# Altium integrated library Linear Technology PMIC-Switching Reg LTC1174-LTC3901.IntLib: 2647 symbols (part 260 of 310)
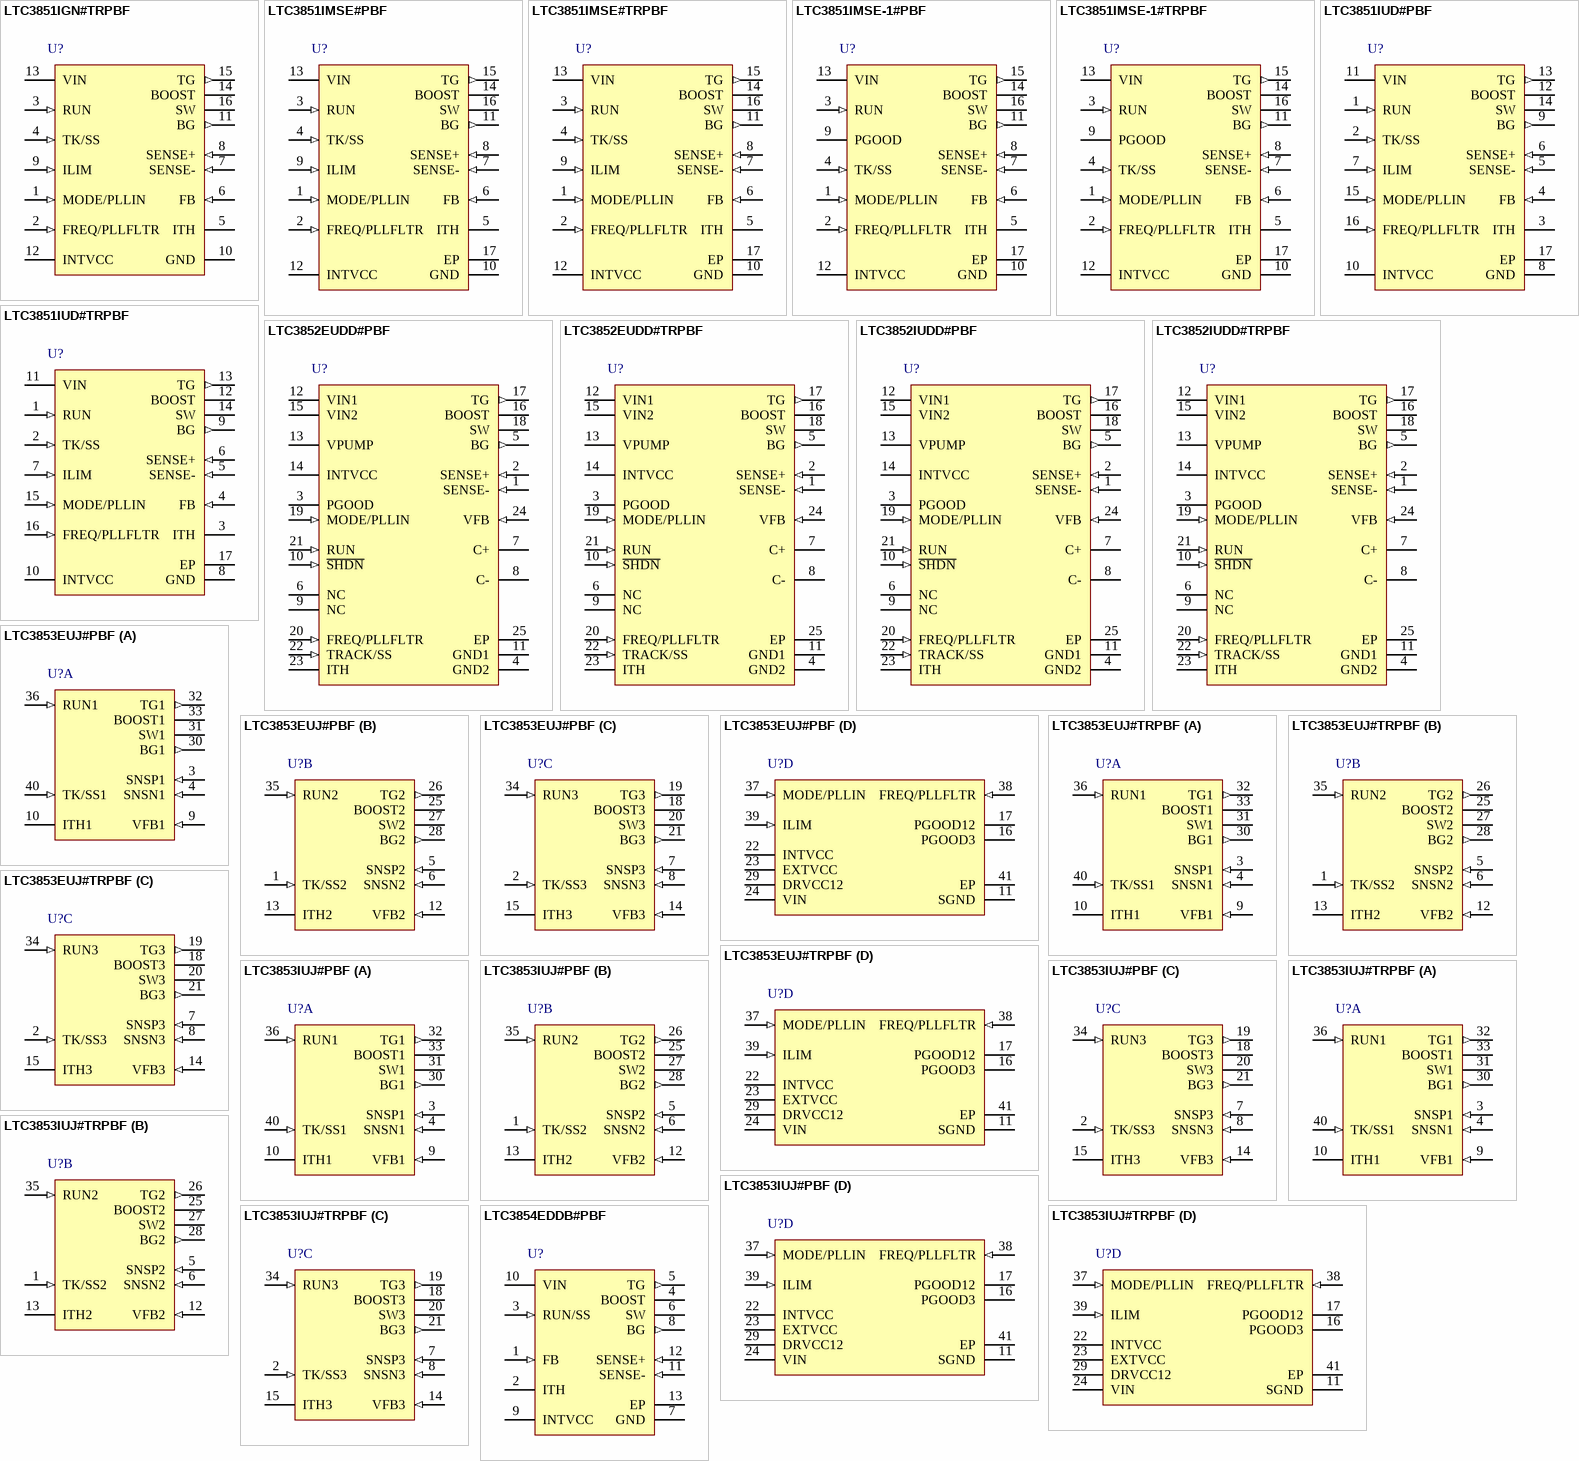
[diagram p271: symbols LTC3851IGN#TRPBF to LTC3854EDDB#PBF]

## LTC3852IUDD#PBF
designator U?
Low Input Voltage, Synchronous Step-Down DC/DC Controller, 24-pin QFN (UDD-24), -40 to 125 degC, Pb-Free; Manufacturer: Linear Technology; PartNumber: LTC3852IUDD#PBF; Number of Outputs: 1; PackageReference: UDD-24; PackageDescription: 24-Pin Plastic QFN, Body 5 x 3 mm, Pitch 0.5 mm; Supplier 1: Digi-Key; Supplier Part Number 1: LTC3852IUDD#PBF-ND; RoHS: TRUE
footprint LT-UDD-24_N (QFN, 24-Leads, Body 5.1x3.1mm, Pitch 0.5mm, Thermal Pad 3.65x1.65mm, IPC Medium Density)
footprint LT-UDD-24_L (QFN, 24-Leads, Body 5.1x3.1mm, Pitch 0.5mm, Thermal Pad 3.65x1.65mm, IPC High Density)
footprint LT-UDD-24_M (QFN, 24-Leads, Body 5.1x3.1mm, Pitch 0.5mm, Thermal Pad 3.65x1.65mm, IPC Low Density)
pins: 1 SENSE- (in) "The (-) Input to the Current Sense Comparators. Kelvin connect to VOUT at the current sense resistor or, if DCR sensing is used, at the inductor.", 2 SENSE+ (in) "Current Sense Comparator Noninverting Input. The (+) input to the current comparator is normally connected to the DCR sensing network or current sensing resistor.", 3 PGOOD (oc) "Power Good Indicator Output. Open drain logic out that is pulled to ground when the output voltage exceeds the +/-10% regulation window, after the internal 17us power bad mask timer expires.", 4 GND2 (power) "Buck Controller Ground. All small-signal components and compensation components should be Kelvin connected to this ground. The (-) terminal of CINTVCC should be closely connected to this pin. The exposed pad must be soldered (See Datasheet)", 5 BG (out) "Bottom Gate Driver Output. This pin drives the gate of the bottom N-channel MOSFET between GND and INTVCC.", 6 NC "No Connection", 7 C+ "Flying Capacitor Positive Terminal.", 8 C- "Flying Capacitor Negative Terminal.", 9 NC "No Connection", 10 ~{SHDN} (in) "Active Low Shutdown Input. A low on S\H\D\N\ disables the charge pump. This pin must not be allowed to float.", 11 GND1 (power) "Charge Pump Ground. The (-) terminals of CIN and CVPUMP should be closely connected to this pin.", 12 VIN1 (power) "Input Supply Voltage to Charge Pump. VIN1 should be bypassed with a 1uF to 4.7uF low ESR ceramic capacitor.", 13 VPUMP (power) "Regulated Output Voltage from Charge Pump. For best performance, VPUMP should be bypassed with a low ESR ceramic capacitor providing at least 2.2uF of capacitance as close to the pin as possible.", 14 INTVCC (power) "Gate Drive Supply. The MOSFET drivers and internal logic are powered from this voltage. Bypass this pin to GND with a minimum 2.2uF low ESR tantalum or ceramic capacitor, CINTVCC.", 15 VIN2 (power) "Main Supply Pin for Step-Down Controller. A bypass capacitor should be tied between this pin and the GND2 pin.", 16 BOOST "Boosted Floating Driver Supply. The (+) terminal of the booststrap capacitor is connected to this pin. This pin swings from a diode voltage drop below INTVCC up to VIN1 + INTVCC.", 17 TG (out) "Top Gate Driver Output. This is the output of a floating driver with a voltage swing equal to INTVCC superimposed on the switch node voltage.", 18 SW "Switch Node Connection to the Inductor. Voltage swing at this pin is from a diode (external) voltage drop below ground to the buck regulator power stage VIN.", 19 MODE/PLLIN (in) "Forced Continuous Mode, Burst Mode operation or Pulse-Skipping Mode Selection Pin and External Synchronization Input to Phase Detector Pin. Connect this pin to INTVCC to force continuous conduction mode of operation. Connect (See Datasheet)", 20 FREQ/PLLFLTR (in) "The phase-locked loop’s lowpass filter is tied to this pin. Alternatively, a resistor can be connected between this pin and GND2 to vary the frequency of the internal oscillator.", 21 RUN (in) "Run Control Input. Forcing the pin below 1.25V shuts down the step-down controller. There is a 2uA pull-up current on this pin.", 22 TRACK/SS (in) "Output Voltage Tracking and Soft-Start Input. A capacitor to ground at this pin sets the ramp rate for the output voltage. An internal soft-start current of 1uA charges this capacitor.", 23 ITH "Error Amplifier Output and Switching Regulator Compensation Point. The current comparator input threshold increases with this control voltage.", 24 VFB (in) "Error Amplifier Feedback Input. This pin receives the remotely sensed feedback voltage from an external resistive divider across the output.", 25 EP (power) "Ground. Must be soldered to PCB, providing a local ground for the IC."

## LTC3852IUDD#TRPBF
designator U?
Low Input Voltage, Synchronous Step-Down DC/DC Controller, 24-pin QFN (UDD-24), -40 to 125 degC, Pb-Free, Tape and Reel; Manufacturer: Linear Technology; PartNumber: LTC3852IUDD#TRPBF; Number of Outputs: 1; PackageReference: UDD-24; PackageDescription: 24-Pin Plastic QFN, Body 5 x 3 mm, Pitch 0.5 mm; Supplier 1: Digi-Key; Supplier Part Number 1: LTC3852IUDD#TRPBF-ND; RoHS: TRUE
footprint LT-UDD-24_N (QFN, 24-Leads, Body 5.1x3.1mm, Pitch 0.5mm, Thermal Pad 3.65x1.65mm, IPC Medium Density)
footprint LT-UDD-24_L (QFN, 24-Leads, Body 5.1x3.1mm, Pitch 0.5mm, Thermal Pad 3.65x1.65mm, IPC High Density)
footprint LT-UDD-24_M (QFN, 24-Leads, Body 5.1x3.1mm, Pitch 0.5mm, Thermal Pad 3.65x1.65mm, IPC Low Density)
pins: 1 SENSE- (in) "The (-) Input to the Current Sense Comparators. Kelvin connect to VOUT at the current sense resistor or, if DCR sensing is used, at the inductor.", 2 SENSE+ (in) "Current Sense Comparator Noninverting Input. The (+) input to the current comparator is normally connected to the DCR sensing network or current sensing resistor.", 3 PGOOD (oc) "Power Good Indicator Output. Open drain logic out that is pulled to ground when the output voltage exceeds the +/-10% regulation window, after the internal 17us power bad mask timer expires.", 4 GND2 (power) "Buck Controller Ground. All small-signal components and compensation components should be Kelvin connected to this ground. The (-) terminal of CINTVCC should be closely connected to this pin. The exposed pad must be soldered (See Datasheet)", 5 BG (out) "Bottom Gate Driver Output. This pin drives the gate of the bottom N-channel MOSFET between GND and INTVCC.", 6 NC "No Connection", 7 C+ "Flying Capacitor Positive Terminal.", 8 C- "Flying Capacitor Negative Terminal.", 9 NC "No Connection", 10 ~{SHDN} (in) "Active Low Shutdown Input. A low on S\H\D\N\ disables the charge pump. This pin must not be allowed to float.", 11 GND1 (power) "Charge Pump Ground. The (-) terminals of CIN and CVPUMP should be closely connected to this pin.", 12 VIN1 (power) "Input Supply Voltage to Charge Pump. VIN1 should be bypassed with a 1uF to 4.7uF low ESR ceramic capacitor.", 13 VPUMP (power) "Regulated Output Voltage from Charge Pump. For best performance, VPUMP should be bypassed with a low ESR ceramic capacitor providing at least 2.2uF of capacitance as close to the pin as possible.", 14 INTVCC (power) "Gate Drive Supply. The MOSFET drivers and internal logic are powered from this voltage. Bypass this pin to GND with a minimum 2.2uF low ESR tantalum or ceramic capacitor, CINTVCC.", 15 VIN2 (power) "Main Supply Pin for Step-Down Controller. A bypass capacitor should be tied between this pin and the GND2 pin.", 16 BOOST "Boosted Floating Driver Supply. The (+) terminal of the booststrap capacitor is connected to this pin. This pin swings from a diode voltage drop below INTVCC up to VIN1 + INTVCC.", 17 TG (out) "Top Gate Driver Output. This is the output of a floating driver with a voltage swing equal to INTVCC superimposed on the switch node voltage.", 18 SW "Switch Node Connection to the Inductor. Voltage swing at this pin is from a diode (external) voltage drop below ground to the buck regulator power stage VIN.", 19 MODE/PLLIN (in) "Forced Continuous Mode, Burst Mode operation or Pulse-Skipping Mode Selection Pin and External Synchronization Input to Phase Detector Pin. Connect this pin to INTVCC to force continuous conduction mode of operation. Connect (See Datasheet)", 20 FREQ/PLLFLTR (in) "The phase-locked loop’s lowpass filter is tied to this pin. Alternatively, a resistor can be connected between this pin and GND2 to vary the frequency of the internal oscillator.", 21 RUN (in) "Run Control Input. Forcing the pin below 1.25V shuts down the step-down controller. There is a 2uA pull-up current on this pin.", 22 TRACK/SS (in) "Output Voltage Tracking and Soft-Start Input. A capacitor to ground at this pin sets the ramp rate for the output voltage. An internal soft-start current of 1uA charges this capacitor.", 23 ITH "Error Amplifier Output and Switching Regulator Compensation Point. The current comparator input threshold increases with this control voltage.", 24 VFB (in) "Error Amplifier Feedback Input. This pin receives the remotely sensed feedback voltage from an external resistive divider across the output.", 25 EP (power) "Ground. Must be soldered to PCB, providing a local ground for the IC."

## LTC3853EUJ#PBF
designator U?
Triple Output, Multiphase Synchronous Step-Down Controller, 40-pin QFN (UJ-40), -40 to 125 degC, Pb-Free; Manufacturer: Linear Technology; PartNumber: LTC3853EUJ#PBF; Number of Outputs: 3; PackageReference: UJ-40; PackageDescription: 40-Pin Plastic QFN, Body 6 x 6 mm, Pitch 0.5 mm; Supplier 1: Digi-Key; Supplier Part Number 1: LTC3853EUJ#PBF-ND; RoHS: TRUE
footprint LT-UJ-40_N (QFN, 40-Leads, Body 6.1x6.1mm, Pitch 0.5mm, Thermal Pad 4.42x4.42mm, IPC Medium Density)
footprint LT-UJ-40_L (QFN, 40-Leads, Body 6.1x6.1mm, Pitch 0.5mm, Thermal Pad 4.42x4.42mm, IPC High Density)
footprint LT-UJ-40_M (QFN, 40-Leads, Body 6.1x6.1mm, Pitch 0.5mm, Thermal Pad 4.42x4.42mm, IPC Low Density)
part A pins: 3 SNSP1 (in) "Current Sense Comparator Inputs. The (+) inputs to the current comparators are normally connected to DCR sensing networks or current sensing resistors. SENSE3+ common modes up to 13.5V, allowing higher VOUT voltages on (See Datasheet)", 4 SNSN1 (in) "Current Sense Comparator Inputs. The (-) inputs to the current comparators are connected to the outputs. SENSE3- common modes up to 13.5V, allowing higher VOUT voltages on channel 3.", 9 VFB1 (in) "Error Amplifier Feedback Inputs. These pins receive the remotely sensed feedback voltages for each channel from external resistive dividers across the outputs. Connecting VFB2 to VIN through a 200k resistor enables dual (See Datasheet)", 10 ITH1 "Current Control Thresholds and Error Amplifier Compensation Points. Each associated channels’ current comparator tripping threshold increases with its ITH control voltage. In dual output (2 + 1) mode, ITH1 and ITH2 need t(See Datasheet)", 30 BG1 (out) "Bottom Gate Driver Outputs. These pins drive the gates of the bottom N-channel MOSFETs between PGND and INTVCC/DRVCC12.", 31 SW1 "Switch Node Connections to Inductors. Voltage swing at these pins is from a Schottky diode (external) voltage drop below ground to VIN.", 32 TG1 (out) "Top Gate Driver Outputs. These are the outputs of floating drivers with a voltage swing equal to INTVCC superimposed on the switch nodes voltages.", 33 BOOST1 "Boosted Floating Driver Supplies. The (+) terminal of the booststrap capacitors connect to these pins. These pins swing from a diode voltage drop below INTVCC up to VIN + INTVCC.", 36 RUN1 (in) "Run Control Inputs. A voltage above 1.2V on any RUN pin turns on the IC. However, forcing any of these pins below 1.2V causes the IC to shut down the circuitry required for that particular channel. There are 0.5uA pull-up (See Datasheet)", 40 TK/SS1 (in) "Output Voltage Tracking and Soft-Start Inputs. When one particular channel is configured to be the master, a capacitor to ground at this pin sets the ramp rate for the master channel’s output voltage. When the channel i(See Datasheet)"
part B pins: 1 TK/SS2 (in) "Output Voltage Tracking and Soft-Start Inputs. When one particular channel is configured to be the master, a capacitor to ground at this pin sets the ramp rate for the master channel’s output voltage. When the channel i(See Datasheet)", 5 SNSP2 (in) "Current Sense Comparator Inputs. The (+) inputs to the current comparators are normally connected to DCR sensing networks or current sensing resistors. SENSE3+ common modes up to 13.5V, allowing higher VOUT voltages on (See Datasheet)", 6 SNSN2 (in) "Current Sense Comparator Inputs. The (-) inputs to the current comparators are connected to the outputs. SENSE3- common modes up to 13.5V, allowing higher VOUT voltages on channel 3.", 12 VFB2 (in) "Error Amplifier Feedback Inputs. These pins receive the remotely sensed feedback voltages for each channel from external resistive dividers across the outputs. Connecting VFB2 to VIN through a 200k resistor enables dual (See Datasheet)", 13 ITH2 "Current Control Thresholds and Error Amplifier Compensation Points. Each associated channels’ current comparator tripping threshold increases with its ITH control voltage. In dual output (2 + 1) mode, ITH1 and ITH2 need t(See Datasheet)", 25 BOOST2 "Boosted Floating Driver Supplies. The (+) terminal of the booststrap capacitors connect to these pins. These pins swing from a diode voltage drop below INTVCC up to VIN + INTVCC.", 26 TG2 (out) "Top Gate Driver Outputs. These are the outputs of floating drivers with a voltage swing equal to INTVCC superimposed on the switch nodes voltages.", 27 SW2 "Switch Node Connections to Inductors. Voltage swing at these pins is from a Schottky diode (external) voltage drop below ground to VIN.", 28 BG2 (out) "Bottom Gate Driver Outputs. These pins drive the gates of the bottom N-channel MOSFETs between PGND and INTVCC/DRVCC12.", 35 RUN2 (in) "Run Control Inputs. A voltage above 1.2V on any RUN pin turns on the IC. However, forcing any of these pins below 1.2V causes the IC to shut down the circuitry required for that particular channel. There are 0.5uA pull-up (See Datasheet)"
part C pins: 2 TK/SS3 (in) "Output Voltage Tracking and Soft-Start Inputs. When one particular channel is configured to be the master, a capacitor to ground at this pin sets the ramp rate for the master channel’s output voltage. When the channel i(See Datasheet)", 7 SNSP3 (in) "Current Sense Comparator Inputs. The (+) inputs to the current comparators are normally connected to DCR sensing networks or current sensing resistors. SENSE3+ common modes up to 13.5V, allowing higher VOUT voltages on (See Datasheet)", 8 SNSN3 (in) "Current Sense Comparator Inputs. The (-) inputs to the current comparators are connected to the outputs. SENSE3- common modes up to 13.5V, allowing higher VOUT voltages on channel 3.", 14 VFB3 (in) "Error Amplifier Feedback Inputs. These pins receive the remotely sensed feedback voltages for each channel from external resistive dividers across the outputs. Connecting VFB2 to VIN through a 200k resistor enables dual (See Datasheet)", 15 ITH3 "Current Control Thresholds and Error Amplifier Compensation Points. Each associated channels’ current comparator tripping threshold increases with its ITH control voltage. In dual output (2 + 1) mode, ITH1 and ITH2 need t(See Datasheet)", 18 BOOST3 "Boosted Floating Driver Supplies. The (+) terminal of the booststrap capacitors connect to these pins. These pins swing from a diode voltage drop below INTVCC up to VIN + INTVCC.", 19 TG3 (out) "Top Gate Driver Outputs. These are the outputs of floating drivers with a voltage swing equal to INTVCC superimposed on the switch nodes voltages.", 20 SW3 "Switch Node Connections to Inductors. Voltage swing at these pins is from a Schottky diode (external) voltage drop below ground to VIN.", 21 BG3 (out) "Bottom Gate Driver Outputs. These pins drive the gates of the bottom N-channel MOSFETs between PGND and INTVCC/DRVCC12.", 34 RUN3 (in) "Run Control Inputs. A voltage above 1.2V on any RUN pin turns on the IC. However, forcing any of these pins below 1.2V causes the IC to shut down the circuitry required for that particular channel. There are 0.5uA pull-up (See Datasheet)"
part D pins: 11 SGND (power) "Signal Ground. All small-signal components and compensation components should connect to this ground, which in turn connects to PGND at one point.", 16 PGOOD3 (oc) "Power Good Indicator Output for Phase 3. Open-drain logic out that is pulled to ground when any channel output exceeds the +/-7.5% regulation window, after the internal 17us power bad mask timer expires.", 17 PGOOD12 (oc) "Power Good Indicator Output for Phases 1 and 2. Open-drain logic out that is pulled to ground when any channel output exceeds the +/-7.5% regulation window, after the internal 17us power bad mask timer expires.", 22 INTVCC (power) "Internal 5V Regulator Output. The control circuits are powered from this voltage. Also provides channel 3 driver power. Decouple this pin to PGND with a minimum of 4.7uF low ESR tantalum or ceramic capacitor.", 23 EXTVCC (power) "External Power Input to an Internal Switch Connected to INTVCC. This switch closes and supplies the IC power, bypassing the internal low dropout regulator, whenever EXTVCC is higher than 4.7V. Do not exceed 6V on this pin (See Datasheet)", 24 VIN (power) "Main Input Supply. Decouple this pin to PGND with a capacitor (0.1uF to 1uF).", 29 DRVCC12 (power) "Driver Voltage Input for Channels 1 and 2. Do not exceed 6V on this pin. This pin must be tied to INTVCC externally.", 37 MODE/PLLIN (in) "Force Continuous Mode, Burst Mode, or Pulse Skip Mode Selection Pin and External Synchronization Input to Phase Detector Pin. Connect this pin to SGND to force all channels into the continuous mode of operation. Connect to (See Datasheet)", 38 FREQ/PLLFLTR (in) "The phase-locked loop’s lowpass filter is tied to this pin. Alternatively, this pin can be driven with a DC voltage to vary the frequency of the internal oscillator.", 39 ILIM (in) "Current Comparator Sense Voltage Range Inputs. This pin is to be programmed to SGND, FLOAT or INTVCC to set the maximum current sense threshold to three different levels.", 41 EP (power) "Power Ground. Connect this pin close to the sources of the bottom N-channel MOSFETs, the (-) terminal of CVCC and the (-) terminal of CIN."

## LTC3853EUJ#TRPBF
designator U?
Triple Output, Multiphase Synchronous Step-Down Controller, 40-pin QFN (UJ-40), -40 to 125 degC, Pb-Free, Tape and Reel; Manufacturer: Linear Technology; PartNumber: LTC3853EUJ#TRPBF; Number of Outputs: 3; PackageReference: UJ-40; PackageDescription: 40-Pin Plastic QFN, Body 6 x 6 mm, Pitch 0.5 mm; Supplier 1: Digi-Key; Supplier Part Number 1: LTC3853EUJ#TRPBF-ND; RoHS: TRUE
footprint LT-UJ-40_N (QFN, 40-Leads, Body 6.1x6.1mm, Pitch 0.5mm, Thermal Pad 4.42x4.42mm, IPC Medium Density)
footprint LT-UJ-40_L (QFN, 40-Leads, Body 6.1x6.1mm, Pitch 0.5mm, Thermal Pad 4.42x4.42mm, IPC High Density)
footprint LT-UJ-40_M (QFN, 40-Leads, Body 6.1x6.1mm, Pitch 0.5mm, Thermal Pad 4.42x4.42mm, IPC Low Density)
part A pins: 3 SNSP1 (in) "Current Sense Comparator Inputs. The (+) inputs to the current comparators are normally connected to DCR sensing networks or current sensing resistors. SENSE3+ common modes up to 13.5V, allowing higher VOUT voltages on (See Datasheet)", 4 SNSN1 (in) "Current Sense Comparator Inputs. The (-) inputs to the current comparators are connected to the outputs. SENSE3- common modes up to 13.5V, allowing higher VOUT voltages on channel 3.", 9 VFB1 (in) "Error Amplifier Feedback Inputs. These pins receive the remotely sensed feedback voltages for each channel from external resistive dividers across the outputs. Connecting VFB2 to VIN through a 200k resistor enables dual (See Datasheet)", 10 ITH1 "Current Control Thresholds and Error Amplifier Compensation Points. Each associated channels’ current comparator tripping threshold increases with its ITH control voltage. In dual output (2 + 1) mode, ITH1 and ITH2 need t(See Datasheet)", 30 BG1 (out) "Bottom Gate Driver Outputs. These pins drive the gates of the bottom N-channel MOSFETs between PGND and INTVCC/DRVCC12.", 31 SW1 "Switch Node Connections to Inductors. Voltage swing at these pins is from a Schottky diode (external) voltage drop below ground to VIN.", 32 TG1 (out) "Top Gate Driver Outputs. These are the outputs of floating drivers with a voltage swing equal to INTVCC superimposed on the switch nodes voltages.", 33 BOOST1 "Boosted Floating Driver Supplies. The (+) terminal of the booststrap capacitors connect to these pins. These pins swing from a diode voltage drop below INTVCC up to VIN + INTVCC.", 36 RUN1 (in) "Run Control Inputs. A voltage above 1.2V on any RUN pin turns on the IC. However, forcing any of these pins below 1.2V causes the IC to shut down the circuitry required for that particular channel. There are 0.5uA pull-up (See Datasheet)", 40 TK/SS1 (in) "Output Voltage Tracking and Soft-Start Inputs. When one particular channel is configured to be the master, a capacitor to ground at this pin sets the ramp rate for the master channel’s output voltage. When the channel i(See Datasheet)"
part B pins: 1 TK/SS2 (in) "Output Voltage Tracking and Soft-Start Inputs. When one particular channel is configured to be the master, a capacitor to ground at this pin sets the ramp rate for the master channel’s output voltage. When the channel i(See Datasheet)", 5 SNSP2 (in) "Current Sense Comparator Inputs. The (+) inputs to the current comparators are normally connected to DCR sensing networks or current sensing resistors. SENSE3+ common modes up to 13.5V, allowing higher VOUT voltages on (See Datasheet)", 6 SNSN2 (in) "Current Sense Comparator Inputs. The (-) inputs to the current comparators are connected to the outputs. SENSE3- common modes up to 13.5V, allowing higher VOUT voltages on channel 3.", 12 VFB2 (in) "Error Amplifier Feedback Inputs. These pins receive the remotely sensed feedback voltages for each channel from external resistive dividers across the outputs. Connecting VFB2 to VIN through a 200k resistor enables dual (See Datasheet)", 13 ITH2 "Current Control Thresholds and Error Amplifier Compensation Points. Each associated channels’ current comparator tripping threshold increases with its ITH control voltage. In dual output (2 + 1) mode, ITH1 and ITH2 need t(See Datasheet)", 25 BOOST2 "Boosted Floating Driver Supplies. The (+) terminal of the booststrap capacitors connect to these pins. These pins swing from a diode voltage drop below INTVCC up to VIN + INTVCC.", 26 TG2 (out) "Top Gate Driver Outputs. These are the outputs of floating drivers with a voltage swing equal to INTVCC superimposed on the switch nodes voltages.", 27 SW2 "Switch Node Connections to Inductors. Voltage swing at these pins is from a Schottky diode (external) voltage drop below ground to VIN.", 28 BG2 (out) "Bottom Gate Driver Outputs. These pins drive the gates of the bottom N-channel MOSFETs between PGND and INTVCC/DRVCC12.", 35 RUN2 (in) "Run Control Inputs. A voltage above 1.2V on any RUN pin turns on the IC. However, forcing any of these pins below 1.2V causes the IC to shut down the circuitry required for that particular channel. There are 0.5uA pull-up (See Datasheet)"
part C pins: 2 TK/SS3 (in) "Output Voltage Tracking and Soft-Start Inputs. When one particular channel is configured to be the master, a capacitor to ground at this pin sets the ramp rate for the master channel’s output voltage. When the channel i(See Datasheet)", 7 SNSP3 (in) "Current Sense Comparator Inputs. The (+) inputs to the current comparators are normally connected to DCR sensing networks or current sensing resistors. SENSE3+ common modes up to 13.5V, allowing higher VOUT voltages on (See Datasheet)", 8 SNSN3 (in) "Current Sense Comparator Inputs. The (-) inputs to the current comparators are connected to the outputs. SENSE3- common modes up to 13.5V, allowing higher VOUT voltages on channel 3.", 14 VFB3 (in) "Error Amplifier Feedback Inputs. These pins receive the remotely sensed feedback voltages for each channel from external resistive dividers across the outputs. Connecting VFB2 to VIN through a 200k resistor enables dual (See Datasheet)", 15 ITH3 "Current Control Thresholds and Error Amplifier Compensation Points. Each associated channels’ current comparator tripping threshold increases with its ITH control voltage. In dual output (2 + 1) mode, ITH1 and ITH2 need t(See Datasheet)", 18 BOOST3 "Boosted Floating Driver Supplies. The (+) terminal of the booststrap capacitors connect to these pins. These pins swing from a diode voltage drop below INTVCC up to VIN + INTVCC.", 19 TG3 (out) "Top Gate Driver Outputs. These are the outputs of floating drivers with a voltage swing equal to INTVCC superimposed on the switch nodes voltages.", 20 SW3 "Switch Node Connections to Inductors. Voltage swing at these pins is from a Schottky diode (external) voltage drop below ground to VIN.", 21 BG3 (out) "Bottom Gate Driver Outputs. These pins drive the gates of the bottom N-channel MOSFETs between PGND and INTVCC/DRVCC12.", 34 RUN3 (in) "Run Control Inputs. A voltage above 1.2V on any RUN pin turns on the IC. However, forcing any of these pins below 1.2V causes the IC to shut down the circuitry required for that particular channel. There are 0.5uA pull-up (See Datasheet)"
part D pins: 11 SGND (power) "Signal Ground. All small-signal components and compensation components should connect to this ground, which in turn connects to PGND at one point.", 16 PGOOD3 (oc) "Power Good Indicator Output for Phase 3. Open-drain logic out that is pulled to ground when any channel output exceeds the +/-7.5% regulation window, after the internal 17us power bad mask timer expires.", 17 PGOOD12 (oc) "Power Good Indicator Output for Phases 1 and 2. Open-drain logic out that is pulled to ground when any channel output exceeds the +/-7.5% regulation window, after the internal 17us power bad mask timer expires.", 22 INTVCC (power) "Internal 5V Regulator Output. The control circuits are powered from this voltage. Also provides channel 3 driver power. Decouple this pin to PGND with a minimum of 4.7uF low ESR tantalum or ceramic capacitor.", 23 EXTVCC (power) "External Power Input to an Internal Switch Connected to INTVCC. This switch closes and supplies the IC power, bypassing the internal low dropout regulator, whenever EXTVCC is higher than 4.7V. Do not exceed 6V on this pin (See Datasheet)", 24 VIN (power) "Main Input Supply. Decouple this pin to PGND with a capacitor (0.1uF to 1uF).", 29 DRVCC12 (power) "Driver Voltage Input for Channels 1 and 2. Do not exceed 6V on this pin. This pin must be tied to INTVCC externally.", 37 MODE/PLLIN (in) "Force Continuous Mode, Burst Mode, or Pulse Skip Mode Selection Pin and External Synchronization Input to Phase Detector Pin. Connect this pin to SGND to force all channels into the continuous mode of operation. Connect to (See Datasheet)", 38 FREQ/PLLFLTR (in) "The phase-locked loop’s lowpass filter is tied to this pin. Alternatively, this pin can be driven with a DC voltage to vary the frequency of the internal oscillator.", 39 ILIM (in) "Current Comparator Sense Voltage Range Inputs. This pin is to be programmed to SGND, FLOAT or INTVCC to set the maximum current sense threshold to three different levels.", 41 EP (power) "Power Ground. Connect this pin close to the sources of the bottom N-channel MOSFETs, the (-) terminal of CVCC and the (-) terminal of CIN."

## LTC3853IUJ#PBF
designator U?
Triple Output, Multiphase Synchronous Step-Down Controller, 40-pin QFN (UJ-40), -40 to 125 degC, Pb-Free; Manufacturer: Linear Technology; PartNumber: LTC3853IUJ#PBF; Number of Outputs: 3; PackageReference: UJ-40; PackageDescription: 40-Pin Plastic QFN, Body 6 x 6 mm, Pitch 0.5 mm; Supplier 1: Digi-Key; Supplier Part Number 1: LTC3853IUJ#PBF-ND; RoHS: TRUE
footprint LT-UJ-40_N (QFN, 40-Leads, Body 6.1x6.1mm, Pitch 0.5mm, Thermal Pad 4.42x4.42mm, IPC Medium Density)
footprint LT-UJ-40_L (QFN, 40-Leads, Body 6.1x6.1mm, Pitch 0.5mm, Thermal Pad 4.42x4.42mm, IPC High Density)
footprint LT-UJ-40_M (QFN, 40-Leads, Body 6.1x6.1mm, Pitch 0.5mm, Thermal Pad 4.42x4.42mm, IPC Low Density)
part A pins: 3 SNSP1 (in) "Current Sense Comparator Inputs. The (+) inputs to the current comparators are normally connected to DCR sensing networks or current sensing resistors. SENSE3+ common modes up to 13.5V, allowing higher VOUT voltages on (See Datasheet)", 4 SNSN1 (in) "Current Sense Comparator Inputs. The (-) inputs to the current comparators are connected to the outputs. SENSE3- common modes up to 13.5V, allowing higher VOUT voltages on channel 3.", 9 VFB1 (in) "Error Amplifier Feedback Inputs. These pins receive the remotely sensed feedback voltages for each channel from external resistive dividers across the outputs. Connecting VFB2 to VIN through a 200k resistor enables dual (See Datasheet)", 10 ITH1 "Current Control Thresholds and Error Amplifier Compensation Points. Each associated channels’ current comparator tripping threshold increases with its ITH control voltage. In dual output (2 + 1) mode, ITH1 and ITH2 need t(See Datasheet)", 30 BG1 (out) "Bottom Gate Driver Outputs. These pins drive the gates of the bottom N-channel MOSFETs between PGND and INTVCC/DRVCC12.", 31 SW1 "Switch Node Connections to Inductors. Voltage swing at these pins is from a Schottky diode (external) voltage drop below ground to VIN.", 32 TG1 (out) "Top Gate Driver Outputs. These are the outputs of floating drivers with a voltage swing equal to INTVCC superimposed on the switch nodes voltages.", 33 BOOST1 "Boosted Floating Driver Supplies. The (+) terminal of the booststrap capacitors connect to these pins. These pins swing from a diode voltage drop below INTVCC up to VIN + INTVCC.", 36 RUN1 (in) "Run Control Inputs. A voltage above 1.2V on any RUN pin turns on the IC. However, forcing any of these pins below 1.2V causes the IC to shut down the circuitry required for that particular channel. There are 0.5uA pull-up (See Datasheet)", 40 TK/SS1 (in) "Output Voltage Tracking and Soft-Start Inputs. When one particular channel is configured to be the master, a capacitor to ground at this pin sets the ramp rate for the master channel’s output voltage. When the channel i(See Datasheet)"
part B pins: 1 TK/SS2 (in) "Output Voltage Tracking and Soft-Start Inputs. When one particular channel is configured to be the master, a capacitor to ground at this pin sets the ramp rate for the master channel’s output voltage. When the channel i(See Datasheet)", 5 SNSP2 (in) "Current Sense Comparator Inputs. The (+) inputs to the current comparators are normally connected to DCR sensing networks or current sensing resistors. SENSE3+ common modes up to 13.5V, allowing higher VOUT voltages on (See Datasheet)", 6 SNSN2 (in) "Current Sense Comparator Inputs. The (-) inputs to the current comparators are connected to the outputs. SENSE3- common modes up to 13.5V, allowing higher VOUT voltages on channel 3.", 12 VFB2 (in) "Error Amplifier Feedback Inputs. These pins receive the remotely sensed feedback voltages for each channel from external resistive dividers across the outputs. Connecting VFB2 to VIN through a 200k resistor enables dual (See Datasheet)", 13 ITH2 "Current Control Thresholds and Error Amplifier Compensation Points. Each associated channels’ current comparator tripping threshold increases with its ITH control voltage. In dual output (2 + 1) mode, ITH1 and ITH2 need t(See Datasheet)", 25 BOOST2 "Boosted Floating Driver Supplies. The (+) terminal of the booststrap capacitors connect to these pins. These pins swing from a diode voltage drop below INTVCC up to VIN + INTVCC.", 26 TG2 (out) "Top Gate Driver Outputs. These are the outputs of floating drivers with a voltage swing equal to INTVCC superimposed on the switch nodes voltages.", 27 SW2 "Switch Node Connections to Inductors. Voltage swing at these pins is from a Schottky diode (external) voltage drop below ground to VIN.", 28 BG2 (out) "Bottom Gate Driver Outputs. These pins drive the gates of the bottom N-channel MOSFETs between PGND and INTVCC/DRVCC12.", 35 RUN2 (in) "Run Control Inputs. A voltage above 1.2V on any RUN pin turns on the IC. However, forcing any of these pins below 1.2V causes the IC to shut down the circuitry required for that particular channel. There are 0.5uA pull-up (See Datasheet)"
part C pins: 2 TK/SS3 (in) "Output Voltage Tracking and Soft-Start Inputs. When one particular channel is configured to be the master, a capacitor to ground at this pin sets the ramp rate for the master channel’s output voltage. When the channel i(See Datasheet)", 7 SNSP3 (in) "Current Sense Comparator Inputs. The (+) inputs to the current comparators are normally connected to DCR sensing networks or current sensing resistors. SENSE3+ common modes up to 13.5V, allowing higher VOUT voltages on (See Datasheet)", 8 SNSN3 (in) "Current Sense Comparator Inputs. The (-) inputs to the current comparators are connected to the outputs. SENSE3- common modes up to 13.5V, allowing higher VOUT voltages on channel 3.", 14 VFB3 (in) "Error Amplifier Feedback Inputs. These pins receive the remotely sensed feedback voltages for each channel from external resistive dividers across the outputs. Connecting VFB2 to VIN through a 200k resistor enables dual (See Datasheet)", 15 ITH3 "Current Control Thresholds and Error Amplifier Compensation Points. Each associated channels’ current comparator tripping threshold increases with its ITH control voltage. In dual output (2 + 1) mode, ITH1 and ITH2 need t(See Datasheet)", 18 BOOST3 "Boosted Floating Driver Supplies. The (+) terminal of the booststrap capacitors connect to these pins. These pins swing from a diode voltage drop below INTVCC up to VIN + INTVCC.", 19 TG3 (out) "Top Gate Driver Outputs. These are the outputs of floating drivers with a voltage swing equal to INTVCC superimposed on the switch nodes voltages.", 20 SW3 "Switch Node Connections to Inductors. Voltage swing at these pins is from a Schottky diode (external) voltage drop below ground to VIN.", 21 BG3 (out) "Bottom Gate Driver Outputs. These pins drive the gates of the bottom N-channel MOSFETs between PGND and INTVCC/DRVCC12.", 34 RUN3 (in) "Run Control Inputs. A voltage above 1.2V on any RUN pin turns on the IC. However, forcing any of these pins below 1.2V causes the IC to shut down the circuitry required for that particular channel. There are 0.5uA pull-up (See Datasheet)"
part D pins: 11 SGND (power) "Signal Ground. All small-signal components and compensation components should connect to this ground, which in turn connects to PGND at one point.", 16 PGOOD3 (oc) "Power Good Indicator Output for Phase 3. Open-drain logic out that is pulled to ground when any channel output exceeds the +/-7.5% regulation window, after the internal 17us power bad mask timer expires.", 17 PGOOD12 (oc) "Power Good Indicator Output for Phases 1 and 2. Open-drain logic out that is pulled to ground when any channel output exceeds the +/-7.5% regulation window, after the internal 17us power bad mask timer expires.", 22 INTVCC (power) "Internal 5V Regulator Output. The control circuits are powered from this voltage. Also provides channel 3 driver power. Decouple this pin to PGND with a minimum of 4.7uF low ESR tantalum or ceramic capacitor.", 23 EXTVCC (power) "External Power Input to an Internal Switch Connected to INTVCC. This switch closes and supplies the IC power, bypassing the internal low dropout regulator, whenever EXTVCC is higher than 4.7V. Do not exceed 6V on this pin (See Datasheet)", 24 VIN (power) "Main Input Supply. Decouple this pin to PGND with a capacitor (0.1uF to 1uF).", 29 DRVCC12 (power) "Driver Voltage Input for Channels 1 and 2. Do not exceed 6V on this pin. This pin must be tied to INTVCC externally.", 37 MODE/PLLIN (in) "Force Continuous Mode, Burst Mode, or Pulse Skip Mode Selection Pin and External Synchronization Input to Phase Detector Pin. Connect this pin to SGND to force all channels into the continuous mode of operation. Connect to (See Datasheet)", 38 FREQ/PLLFLTR (in) "The phase-locked loop’s lowpass filter is tied to this pin. Alternatively, this pin can be driven with a DC voltage to vary the frequency of the internal oscillator.", 39 ILIM (in) "Current Comparator Sense Voltage Range Inputs. This pin is to be programmed to SGND, FLOAT or INTVCC to set the maximum current sense threshold to three different levels.", 41 EP (power) "Power Ground. Connect this pin close to the sources of the bottom N-channel MOSFETs, the (-) terminal of CVCC and the (-) terminal of CIN."

## LTC3853IUJ#TRPBF
designator U?
Triple Output, Multiphase Synchronous Step-Down Controller, 40-pin QFN (UJ-40), -40 to 125 degC, Pb-Free, Tape and Reel; Manufacturer: Linear Technology; PartNumber: LTC3853IUJ#TRPBF; Number of Outputs: 3; PackageReference: UJ-40; PackageDescription: 40-Pin Plastic QFN, Body 6 x 6 mm, Pitch 0.5 mm; Supplier 1: Digi-Key; Supplier Part Number 1: LTC3853IUJ#TRPBF-ND; RoHS: TRUE
footprint LT-UJ-40_N (QFN, 40-Leads, Body 6.1x6.1mm, Pitch 0.5mm, Thermal Pad 4.42x4.42mm, IPC Medium Density)
footprint LT-UJ-40_L (QFN, 40-Leads, Body 6.1x6.1mm, Pitch 0.5mm, Thermal Pad 4.42x4.42mm, IPC High Density)
footprint LT-UJ-40_M (QFN, 40-Leads, Body 6.1x6.1mm, Pitch 0.5mm, Thermal Pad 4.42x4.42mm, IPC Low Density)
part A pins: 3 SNSP1 (in) "Current Sense Comparator Inputs. The (+) inputs to the current comparators are normally connected to DCR sensing networks or current sensing resistors. SENSE3+ common modes up to 13.5V, allowing higher VOUT voltages on (See Datasheet)", 4 SNSN1 (in) "Current Sense Comparator Inputs. The (-) inputs to the current comparators are connected to the outputs. SENSE3- common modes up to 13.5V, allowing higher VOUT voltages on channel 3.", 9 VFB1 (in) "Error Amplifier Feedback Inputs. These pins receive the remotely sensed feedback voltages for each channel from external resistive dividers across the outputs. Connecting VFB2 to VIN through a 200k resistor enables dual (See Datasheet)", 10 ITH1 "Current Control Thresholds and Error Amplifier Compensation Points. Each associated channels’ current comparator tripping threshold increases with its ITH control voltage. In dual output (2 + 1) mode, ITH1 and ITH2 need t(See Datasheet)", 30 BG1 (out) "Bottom Gate Driver Outputs. These pins drive the gates of the bottom N-channel MOSFETs between PGND and INTVCC/DRVCC12.", 31 SW1 "Switch Node Connections to Inductors. Voltage swing at these pins is from a Schottky diode (external) voltage drop below ground to VIN.", 32 TG1 (out) "Top Gate Driver Outputs. These are the outputs of floating drivers with a voltage swing equal to INTVCC superimposed on the switch nodes voltages.", 33 BOOST1 "Boosted Floating Driver Supplies. The (+) terminal of the booststrap capacitors connect to these pins. These pins swing from a diode voltage drop below INTVCC up to VIN + INTVCC.", 36 RUN1 (in) "Run Control Inputs. A voltage above 1.2V on any RUN pin turns on the IC. However, forcing any of these pins below 1.2V causes the IC to shut down the circuitry required for that particular channel. There are 0.5uA pull-up (See Datasheet)", 40 TK/SS1 (in) "Output Voltage Tracking and Soft-Start Inputs. When one particular channel is configured to be the master, a capacitor to ground at this pin sets the ramp rate for the master channel’s output voltage. When the channel i(See Datasheet)"
part B pins: 1 TK/SS2 (in) "Output Voltage Tracking and Soft-Start Inputs. When one particular channel is configured to be the master, a capacitor to ground at this pin sets the ramp rate for the master channel’s output voltage. When the channel i(See Datasheet)", 5 SNSP2 (in) "Current Sense Comparator Inputs. The (+) inputs to the current comparators are normally connected to DCR sensing networks or current sensing resistors. SENSE3+ common modes up to 13.5V, allowing higher VOUT voltages on (See Datasheet)", 6 SNSN2 (in) "Current Sense Comparator Inputs. The (-) inputs to the current comparators are connected to the outputs. SENSE3- common modes up to 13.5V, allowing higher VOUT voltages on channel 3.", 12 VFB2 (in) "Error Amplifier Feedback Inputs. These pins receive the remotely sensed feedback voltages for each channel from external resistive dividers across the outputs. Connecting VFB2 to VIN through a 200k resistor enables dual (See Datasheet)", 13 ITH2 "Current Control Thresholds and Error Amplifier Compensation Points. Each associated channels’ current comparator tripping threshold increases with its ITH control voltage. In dual output (2 + 1) mode, ITH1 and ITH2 need t(See Datasheet)", 25 BOOST2 "Boosted Floating Driver Supplies. The (+) terminal of the booststrap capacitors connect to these pins. These pins swing from a diode voltage drop below INTVCC up to VIN + INTVCC.", 26 TG2 (out) "Top Gate Driver Outputs. These are the outputs of floating drivers with a voltage swing equal to INTVCC superimposed on the switch nodes voltages.", 27 SW2 "Switch Node Connections to Inductors. Voltage swing at these pins is from a Schottky diode (external) voltage drop below ground to VIN.", 28 BG2 (out) "Bottom Gate Driver Outputs. These pins drive the gates of the bottom N-channel MOSFETs between PGND and INTVCC/DRVCC12.", 35 RUN2 (in) "Run Control Inputs. A voltage above 1.2V on any RUN pin turns on the IC. However, forcing any of these pins below 1.2V causes the IC to shut down the circuitry required for that particular channel. There are 0.5uA pull-up (See Datasheet)"
part C pins: 2 TK/SS3 (in) "Output Voltage Tracking and Soft-Start Inputs. When one particular channel is configured to be the master, a capacitor to ground at this pin sets the ramp rate for the master channel’s output voltage. When the channel i(See Datasheet)", 7 SNSP3 (in) "Current Sense Comparator Inputs. The (+) inputs to the current comparators are normally connected to DCR sensing networks or current sensing resistors. SENSE3+ common modes up to 13.5V, allowing higher VOUT voltages on (See Datasheet)", 8 SNSN3 (in) "Current Sense Comparator Inputs. The (-) inputs to the current comparators are connected to the outputs. SENSE3- common modes up to 13.5V, allowing higher VOUT voltages on channel 3.", 14 VFB3 (in) "Error Amplifier Feedback Inputs. These pins receive the remotely sensed feedback voltages for each channel from external resistive dividers across the outputs. Connecting VFB2 to VIN through a 200k resistor enables dual (See Datasheet)", 15 ITH3 "Current Control Thresholds and Error Amplifier Compensation Points. Each associated channels’ current comparator tripping threshold increases with its ITH control voltage. In dual output (2 + 1) mode, ITH1 and ITH2 need t(See Datasheet)", 18 BOOST3 "Boosted Floating Driver Supplies. The (+) terminal of the booststrap capacitors connect to these pins. These pins swing from a diode voltage drop below INTVCC up to VIN + INTVCC.", 19 TG3 (out) "Top Gate Driver Outputs. These are the outputs of floating drivers with a voltage swing equal to INTVCC superimposed on the switch nodes voltages.", 20 SW3 "Switch Node Connections to Inductors. Voltage swing at these pins is from a Schottky diode (external) voltage drop below ground to VIN.", 21 BG3 (out) "Bottom Gate Driver Outputs. These pins drive the gates of the bottom N-channel MOSFETs between PGND and INTVCC/DRVCC12.", 34 RUN3 (in) "Run Control Inputs. A voltage above 1.2V on any RUN pin turns on the IC. However, forcing any of these pins below 1.2V causes the IC to shut down the circuitry required for that particular channel. There are 0.5uA pull-up (See Datasheet)"
part D pins: 11 SGND (power) "Signal Ground. All small-signal components and compensation components should connect to this ground, which in turn connects to PGND at one point.", 16 PGOOD3 (oc) "Power Good Indicator Output for Phase 3. Open-drain logic out that is pulled to ground when any channel output exceeds the +/-7.5% regulation window, after the internal 17us power bad mask timer expires.", 17 PGOOD12 (oc) "Power Good Indicator Output for Phases 1 and 2. Open-drain logic out that is pulled to ground when any channel output exceeds the +/-7.5% regulation window, after the internal 17us power bad mask timer expires.", 22 INTVCC (power) "Internal 5V Regulator Output. The control circuits are powered from this voltage. Also provides channel 3 driver power. Decouple this pin to PGND with a minimum of 4.7uF low ESR tantalum or ceramic capacitor.", 23 EXTVCC (power) "External Power Input to an Internal Switch Connected to INTVCC. This switch closes and supplies the IC power, bypassing the internal low dropout regulator, whenever EXTVCC is higher than 4.7V. Do not exceed 6V on this pin (See Datasheet)", 24 VIN (power) "Main Input Supply. Decouple this pin to PGND with a capacitor (0.1uF to 1uF).", 29 DRVCC12 (power) "Driver Voltage Input for Channels 1 and 2. Do not exceed 6V on this pin. This pin must be tied to INTVCC externally.", 37 MODE/PLLIN (in) "Force Continuous Mode, Burst Mode, or Pulse Skip Mode Selection Pin and External Synchronization Input to Phase Detector Pin. Connect this pin to SGND to force all channels into the continuous mode of operation. Connect to (See Datasheet)", 38 FREQ/PLLFLTR (in) "The phase-locked loop’s lowpass filter is tied to this pin. Alternatively, this pin can be driven with a DC voltage to vary the frequency of the internal oscillator.", 39 ILIM (in) "Current Comparator Sense Voltage Range Inputs. This pin is to be programmed to SGND, FLOAT or INTVCC to set the maximum current sense threshold to three different levels.", 41 EP (power) "Power Ground. Connect this pin close to the sources of the bottom N-channel MOSFETs, the (-) terminal of CVCC and the (-) terminal of CIN."

## LTC3854EDDB#PBF
designator U?
Small Package Range Synchronous Step-Down Controller, 4.5 to 38 V Vin, 12-pin SON (DDB-12), -40 to 85 degC, Pb-Free; Manufacturer: Linear Technology; PartNumber: LTC3854EDDB#PBF; Number of Outputs: 1; PackageReference: DDB-12; PackageDescription: 12-Pin Plastic DFN, Body 3 x 2 mm, Pitch 0.45 mm; Supplier 1: Newark; Supplier Part Number 1: 78T3267; RoHS: TRUE
footprint LT-DDB-12_V (SON, 12-Leads, Body 3x2mm, Pitch 0.45mm, Thermal Pad 2.39x0.64mm)
pins: 1 FB (in) "Error Amplifier Feedback Input. This pin receives the remotely-sensed feedback voltage from an external resistor divider across the output.", 2 ITH "Error Amplifier Output and Switching Regulator Compensation Point. The current comparator trip point increases with this control voltage.", 3 RUN/SS (in) "Run Control, Soft-Start. If the voltage on this pin is held below 0.4V, the part is in shutdown. If the pin is released the capacitance to ground at this pin sets the soft-start ramp rate. An internal 1.25uA soft-start (See Datasheet)", 4 BOOST "Bootstrapped Supply to the Top Side Floating Driver. A low ESR capacitor is connected between the BOOST and SW pins and an external Schottky diode is tied between the BOOST and INTVCC pins. The voltage swing on the BOOST pin (See Datasheet)", 5 TG (out) "High Current Gate Drive for Top N-channel MOSFET. This is the output of floating driver with a voltage swing equal to INTVCC superimposed on the switch node voltage.", 6 SW "Switch Node Connection to Inductor. The voltage swing on this pin is from a Schottky diode (external) forward voltage (when this diode is added across the Nchannel synchronous MOSFET) below ground to VIN.", 7 GND (power) "Small Signal and Power Ground. This is the high current ground for the gate driver. The internal signal ground is Kelvin connected to this pin for noise suppression.", 8 BG (out) "High Current Gate Drive for Bottom (Synchronous) N-channel MOSFET. The voltage swing at this pin is from ground to INTVCC.", 9 INTVCC (power) "Output of the Internal 5V Low Dropout Regulator. The driver and control circuits are powered from this voltage. Must be decoupled to power ground with a minimum of 2.2uF low ESR ceramic capacitor (X5R or better).", 10 VIN (power) "Main Supply Pin. A bypass capacitor should be tied between this pin and the signal ground pin.", 11 SENSE- (in) "The (-) Input to the Differential Current Comparator.", 12 SENSE+ (in) "The (+) Input to the Differential Current Comparator. The ITH pin voltage and controlled offsets between the SENSE- and SENSE+ pins in conjunction with RSENSE (or RDCR) set the peak current trip threshold.", 13 EP (power) "The exposed pad must be soldered to PCB ground for electrical contact and rated thermal performance."

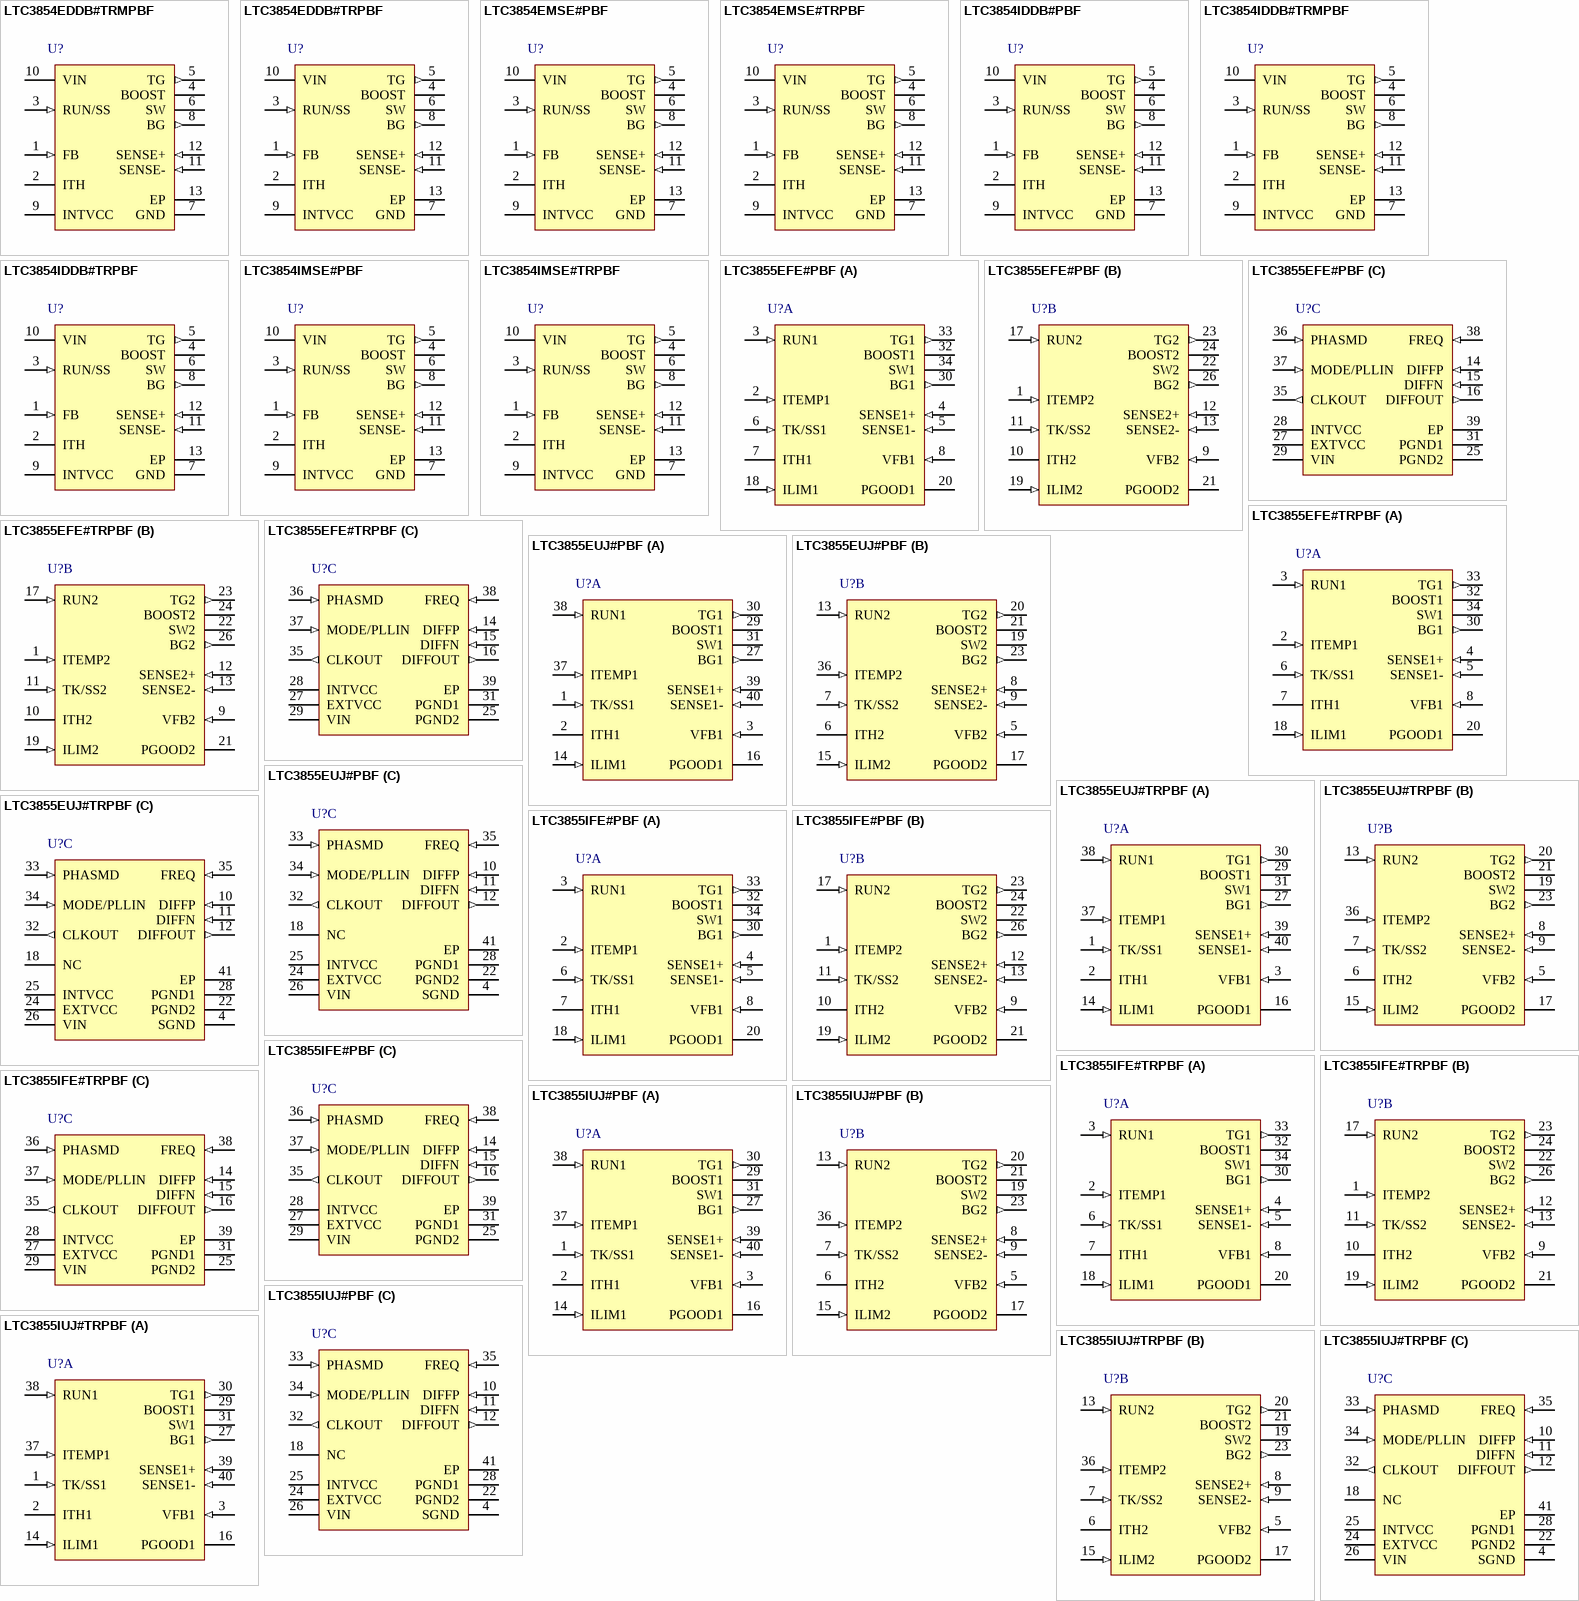
[diagram p94: symbols LTC3854EDDB#TRMPBF to LTC3855IUJ#TRPBF]